# EAGLE library part 613013143121 (library Eagle_BOARD-TO-BOARD_CONNECTORS (rev18b))
WR-PHD 2.54mm Angled Socket Header, 13 Pins =>Code : Con_BTB_SHD_2.54_1_THT_613013143121 <http://katalog.we-online.de/media/images/eican/Con_BTB_SHD_2.54_1_THT_6130xx143121_pf2.jpg> Details see: http://katalog.we-online.de/en/em/613_0xx_143_121 Created 2014-05-29, Karrer Zheng 2014 (C) Würth Elektronik
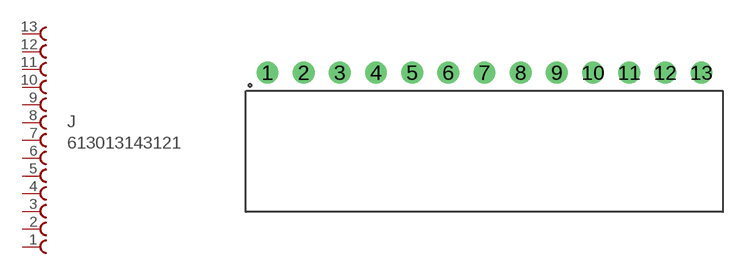
[diagram p133: symbol with the pads of 613013143121; footprint 613013143121]

Designator prefix J

## 613013143121  [613013143121]
1  13  pas
2  12  pas
3  11  pas
4  10  pas
5  9  pas
6  8  pas
7  7  pas
8  6  pas
9  5  pas
10  4  pas
11  3  pas
12  2  pas
13  1  pas

## Footprint 613013143121 (pad centres in mm)
WR-PHD 2.54mm Angeld Socket Header, 13 Pins
drill 1.02: 1 -15.24,0; 2 -12.7,0; 3 -10.16,0; 4 -7.62,0; 5 -5.08,0; 6 -2.54,0; 7 0,0; 8 2.54,0; 9 5.08,0; 10 7.62,0; 11 10.16,0; 12 12.7,0; 13 15.24,0